# Altium schematic symbol library SCH - CONNECTORS - SAMTEC - TSW-106-07-F-D.SCHLIB: 1 symbol
Pins are listed as number, name and electrical type; pins without a type are passive.

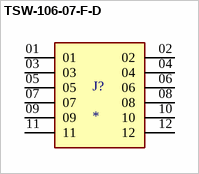
[diagram p0: symbol TSW-106-07-F-D]

## TSW-106-07-F-D
designator J?
MP: TSW-106-07-F-D; MF: Samtec; Price: None; Package: None; Value: *; Availability: Unavailable
footprint SAMTEC_TSW-106-07-F-D (Footprint not found)
pins: 01, 02, 03, 04, 05, 06, 07, 08, 09, 10, 11, 12